# Altium footprint library Pcb44b0x1.PcbLib: 46 footprints (part 1 of 3)
Each footprint in its own frame and in the unit in brackets; x right, y up, seen from the top. Pads: shape width x height; smd on the part's side, far side on the other; paste and mask are expansions set on the pad; w line width, h text height; cw(c..) or ccw(c..) is an arc to the next point about the centre after c.
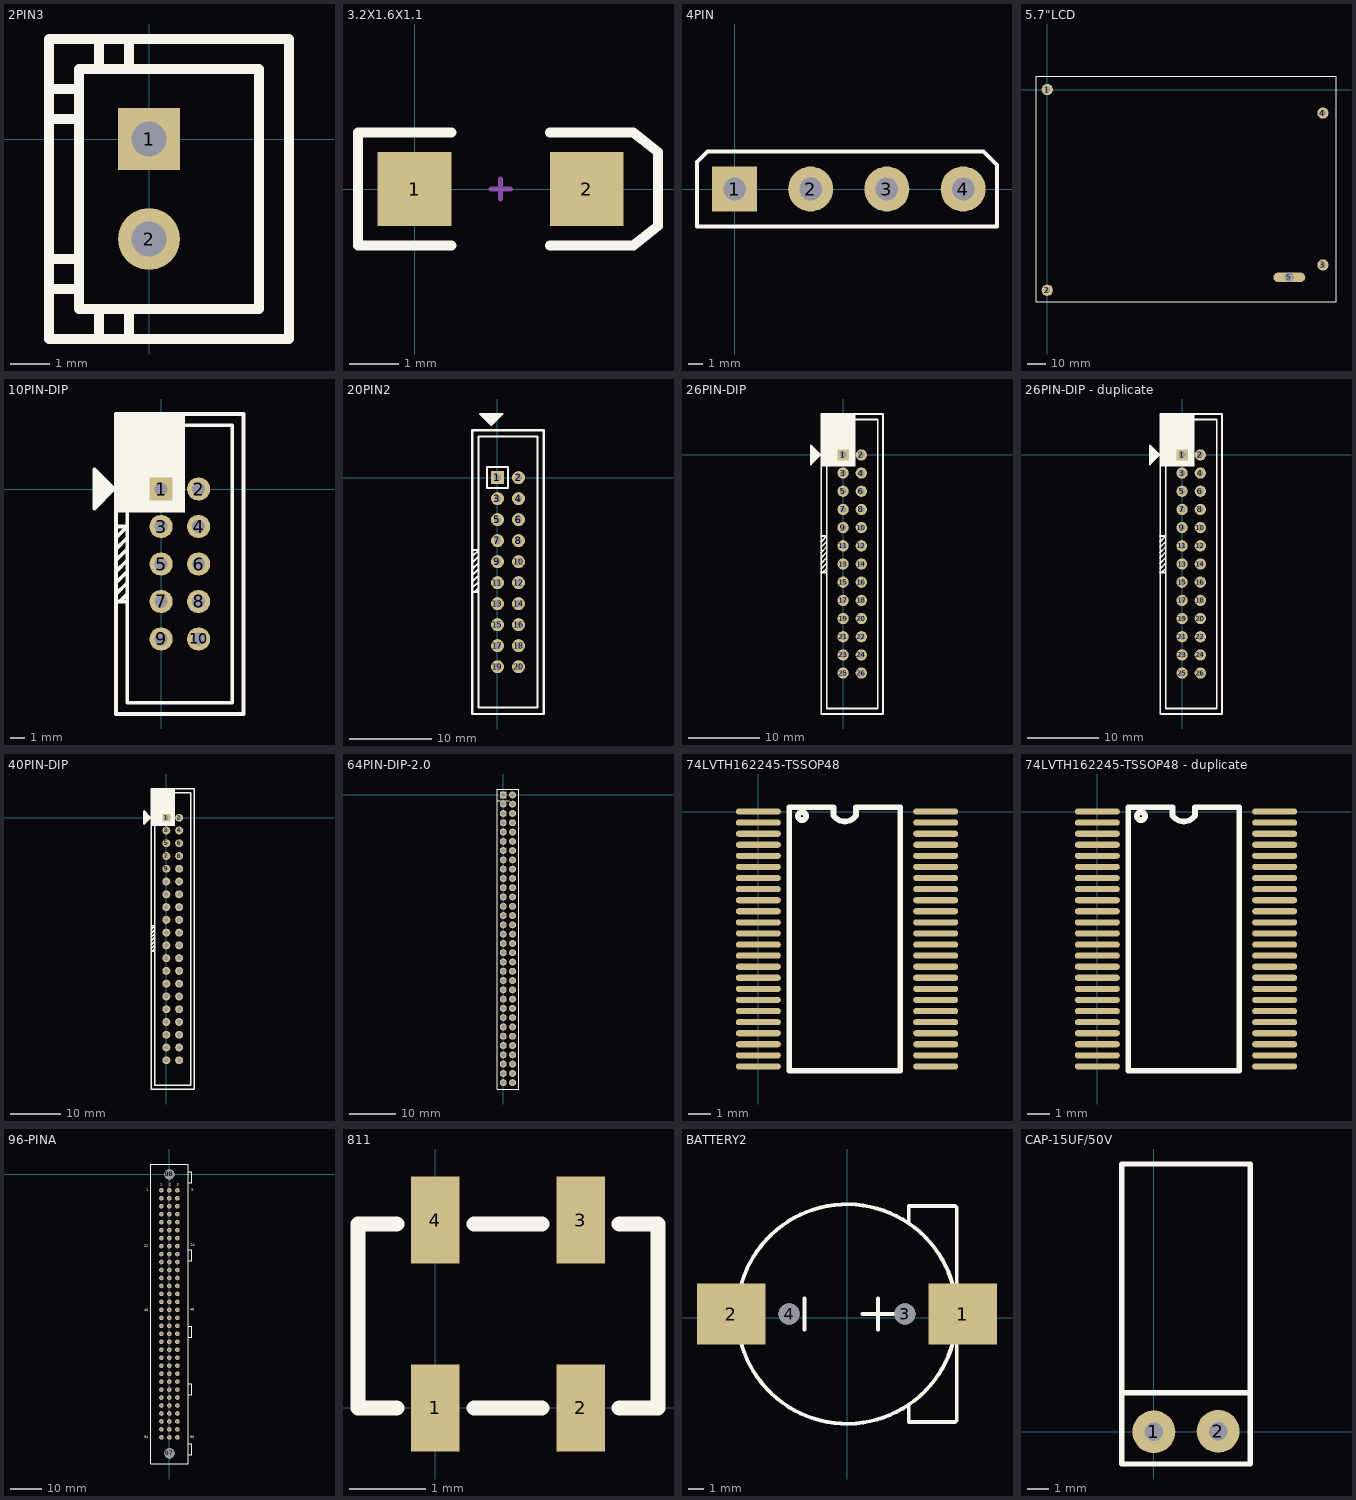
[diagram p0: the footprints below, top view; thin cyan lines are the x and y axes]

## 2PIN3 [mil]
pads (2):
  rect 62x62 hole 35: 1(0,0)
  round 62 hole 35: 2(0,-100)
Top Overlay:
  lines w10: -100,-150 -70,-150 ; -100,-120 -70,-120 ; -100,20 -70,20 ; -100,50 -70,50 ; -50,-200 -50,-170 ; -50,70 -50,100 ; -20,-200 -20,-170 ; -20,70 -20,100 ; -100,-200 -100,100 0,100 140,100 140,-200 -100,-200 ; -70,-170 -70,70 110,70 110,-170 -70,-170
Multi-Layer:
  text "Comment" at -105,113 h25

## 3.2X1.6X1.1 [mm] "SMT LED; 2 Flat Leads"
pads (2):
  rect 1.5x1.5 smd: 1(0,0) 2(3.5,0)
Top Overlay:
  lines w0.2: 0.75,-1.15 -1.15,-1.15 -1.15,1.15 0.75,1.15 ; 2.75,-1.15 4.45,-1.15 4.95,-0.75 4.95,0.75 4.45,1.15 2.75,1.15
Mechanical 1:
  lines w0.1: 1.55,0 1.95,0 ; 1.75,-0.2 1.75,0.2

## 4PIN [mm]
pads (4):
  rect 3x3 hole 1.5: 1(0,0)
  round 3 hole 1.5: 2(5.08,0) 3(10.16,0) 4(15.24,0)
Top Overlay:
  lines w0.254: -2.5,-2.5 -2.5,1.8 -1.8,2.5 16.6,2.5 17.5,1.6 17.5,-2.5 -2.5,-2.5

## 5.7"LCD [mm]
pads (5):
  round 6 hole 3.1: 1(0,0) 2(0,-107) 3(147,-93.5) 4(147,-12.5)
  oval 17x5 hole 5: 5(129.1,-100.1)
Top Overlay:
  lines w0.305: -6,-113 -6,7 154,7 154,-113 -6,-113

## 10PIN-DIP [mil]
pads (10):
  rect 62x62 hole 35: 1(0,0)
  round 62 hole 35: 2(100,0) 3(0,-100) 4(100,-100) 5(0,-200) 6(100,-200) 7(0,-300) 8(100,-300) 9(0,-400) 10(100,-400)
Top Overlay:
  region: -120,-62.2 63.78,-62.2 63.78,200 -120,200
  lines w10: -177.56,-19.68 -177.56,-51.97 -177.17,-52.36 -177.17,-51.97 -124.57,0.63 -124.57,0.79 -124.57,-0.39 -124.57,-0.24 -177.56,52.76 -177.56,-35.04 -170.2,-38.46 -170.2,45.4 ; -161.49,36.68 -161.49,-32.21 -161.42,-32.28 ; -153.15,-24.8 -152.66,-24.31 -152.66,27.86 ; -144.06,-12.17 -144.06,19.26 ; -136.72,-5.23 -136.72,11.92 ; -120,-280 -90,-250 ; -120,-250 -90,-220 ; -120,-220 -90,-190 ; -120,-190 -90,-160 ; -120,-160 -90,-130 ; -120,-130 -90,-100 -120,-100 ; -90,-300 -120,-300 -110,-300 -90,-280 ; -120,-600 -120,-500 -120,200 220,200 220,-500 220,-600 -120,-600 ; -90,-570 -90,170 190,170 190,-570 -90,-570 ; -60,-50 50,-50 50,60 -60,60 -60,-50
Multi-Layer:
  text "Comment" at -185.06,213 h25

## 20PIN2 [mil]
pads (20):
  rect 62x62 hole 35: 1(0,0)
  round 62 hole 35: 2(100,0) 3(0,-100) 4(100,-100) 5(0,-200) 6(100,-200) 7(0,-300) 8(100,-300) 9(0,-400) 10(100,-400) 11(0,-500) 12(100,-500) 13(0,-600) 14(100,-600) 15(0,-700) 16(100,-700) 17(0,-800) 18(100,-800) 19(0,-900) 20(100,-900)
Top Overlay:
  lines w10: -120,-525 -90,-495 ; -120,-495 -90,-465 ; -120,-465 -90,-435 ; -120,-435 -90,-405 ; -120,-405 -90,-375 ; -120,-375 -90,-345 -120,-345 ; -90,-545 -120,-545 -110,-545 -90,-525 ; -62.28,286.42 -62.21,286.49 6.68,286.49 ; -54.8,278.15 -54.31,277.66 -2.14,277.66 ; -49.68,302.56 -81.97,302.56 -82.36,302.17 -81.97,302.17 -29.37,249.57 -29.21,249.57 -30.39,249.57 -30.24,249.57 22.76,302.56 -65.04,302.56 -68.46,295.2 15.4,295.2 ; -42.17,269.06 -10.74,269.06 ; -35.23,261.72 -18.08,261.72 ; -120,-1125 220,-1125 220,225 0,225 -120,225 -120,-1125 ; -90,-1095 190,-1095 190,195 -90,195 -90,-1095 ; -50,-50 -50,50 50,50 50,-50 -50,-50

## 26PIN-DIP [mil]
pads (26):
  rect 62x62 hole 35: 1(0,0)
  round 62 hole 35: 2(100,0) 3(0,-100) 4(100,-100) 5(0,-200) 6(100,-200) 7(0,-300) 8(100,-300) 9(0,-400) 10(100,-400) 11(0,-500) 12(100,-500) 13(0,-600) 14(100,-600) 15(0,-700) 16(100,-700) 17(0,-800) 18(100,-800) 19(0,-900) 20(100,-900) 21(0,-1000) 22(100,-1000) 23(0,-1100) 24(100,-1100) 25(0,-1200) 26(100,-1200)
Top Overlay:
  region: -120,-63.39 66.14,-63.39 66.14,225 -120,225
  lines w10: -177.56,-19.68 -177.56,-51.97 -177.17,-52.36 -177.17,-51.97 -124.57,0.63 -124.57,0.79 -124.57,-0.39 -124.57,-0.24 -177.56,52.76 -177.56,-35.04 -170.2,-38.46 -170.2,45.4 ; -161.49,36.68 -161.49,-32.21 -161.42,-32.28 ; -153.15,-24.8 -152.66,-24.31 -152.66,27.86 ; -144.06,-12.17 -144.06,19.26 ; -136.72,-5.23 -136.72,11.92 ; -121.45,-626.45 -91.45,-596.45 ; -121.45,-596.45 -91.45,-566.45 ; -121.45,-566.45 -91.45,-536.45 ; -121.45,-536.45 -91.45,-506.45 ; -121.45,-506.45 -91.45,-476.45 ; -121.45,-476.45 -91.45,-446.45 -121.45,-446.45 ; -91.45,-646.45 -121.45,-646.45 -111.45,-646.45 -91.45,-626.45 ; -120,-1425 220,-1425 220,-1225 220,-1125 220,225 0,225 -120,225 -120,-1125 -120,-1225 -120,-1425 ; -90,-1395 190,-1395 190,-1195 190,-1095 190,195 -90,195 -90,-1095 -90,-1195 -90,-1395 ; -50,-50 50,-50 50,50 -50,50 -50,-50
Multi-Layer:
  text "Comment" at -185.06,238 h25

## 26PIN-DIP - duplicate [mil]
pads (26):
  rect 62x62 hole 35: 1(0,0)
  round 62 hole 35: 2(100,0) 3(0,-100) 4(100,-100) 5(0,-200) 6(100,-200) 7(0,-300) 8(100,-300) 9(0,-400) 10(100,-400) 11(0,-500) 12(100,-500) 13(0,-600) 14(100,-600) 15(0,-700) 16(100,-700) 17(0,-800) 18(100,-800) 19(0,-900) 20(100,-900) 21(0,-1000) 22(100,-1000) 23(0,-1100) 24(100,-1100) 25(0,-1200) 26(100,-1200)
Top Overlay:
  region: -120,-63.39 66.14,-63.39 66.14,225 -120,225
  lines w10: -177.56,-19.68 -177.56,-51.97 -177.17,-52.36 -177.17,-51.97 -124.57,0.63 -124.57,0.79 -124.57,-0.39 -124.57,-0.24 -177.56,52.76 -177.56,-35.04 -170.2,-38.46 -170.2,45.4 ; -161.49,36.68 -161.49,-32.21 -161.42,-32.28 ; -153.15,-24.8 -152.66,-24.31 -152.66,27.86 ; -144.06,-12.17 -144.06,19.26 ; -136.72,-5.23 -136.72,11.92 ; -121.45,-626.45 -91.45,-596.45 ; -121.45,-596.45 -91.45,-566.45 ; -121.45,-566.45 -91.45,-536.45 ; -121.45,-536.45 -91.45,-506.45 ; -121.45,-506.45 -91.45,-476.45 ; -121.45,-476.45 -91.45,-446.45 -121.45,-446.45 ; -91.45,-646.45 -121.45,-646.45 -111.45,-646.45 -91.45,-626.45 ; -120,-1425 220,-1425 220,-1225 220,-1125 220,225 0,225 -120,225 -120,-1125 -120,-1225 -120,-1425 ; -90,-1395 190,-1395 190,-1195 190,-1095 190,195 -90,195 -90,-1095 -90,-1195 -90,-1395 ; -50,-50 50,-50 50,50 -50,50 -50,-50
Multi-Layer:
  text "Comment" at -185.06,238 h25

## 40PIN-DIP [mil]
pads (40):
  rect 62x62 hole 35: 1(0,0)
  round 62 hole 35: 2(100,0) 3(0,-100) 4(100,-100) 5(0,-200) 6(100,-200) 7(0,-300) 8(100,-300) 9(0,-400) 10(100,-400) 11(0,-500) 12(100,-500) 13(0,-600) 14(100,-600) 15(0,-700) 16(100,-700) 17(0,-800) 18(100,-800) 19(0,-900) 20(100,-900) 21(0,-1000) 22(100,-1000) 23(0,-1100) 24(100,-1100) 25(0,-1200) 26(100,-1200) 27(0,-1300) 28(100,-1300) 29(0,-1400) 30(100,-1400) 31(0,-1500) 32(100,-1500) 33(0,-1600) 34(100,-1600) 35(0,-1700) 36(100,-1700) 37(0,-1800) 38(100,-1800) 39(0,-1900) 40(100,-1900)
Top Overlay:
  region: -120,-63.39 66.14,-63.39 66.14,225 -120,225
  lines w10: -178.35,-19.68 -178.35,-51.97 -177.95,-52.36 -177.95,-51.97 -125.35,0.63 -125.35,0.79 -125.35,-0.39 -125.35,-0.24 -178.35,52.76 -178.35,-35.04 -170.99,-38.46 -170.99,45.4 ; -162.27,36.68 -162.27,-32.21 -162.2,-32.28 ; -153.94,-24.8 -153.45,-24.31 -153.45,27.86 ; -144.85,-12.17 -144.85,19.26 ; -137.51,-5.23 -137.51,11.92 ; -120.33,-1027 -90.33,-997 ; -120.33,-997 -90.33,-967 ; -120.33,-967 -90.33,-937 ; -120.33,-937 -90.33,-907 ; -120.33,-907 -90.33,-877 ; -120.33,-877 -90.33,-847 -120.33,-847 ; -90.33,-1047 -120.33,-1047 -110.33,-1047 -90.33,-1027 ; -120,-2125 220,-2125 220,-1125 220,225 0,225 -120,225 -120,-1125 -120,-2120 -120,-2125 ; -90,-2095 190,-2095 190,-1095 190,195 -90,195 -90,-1095 -90,-2095 ; -50,-50 50,-50 50,50 -50,50 -50,-50
Multi-Layer:
  text "Comment" at -183.35,238 h25

## 64PIN-DIP-2.0 [mm]
pads (64):
  rect 1.5x1.5 hole 0.889: 1(0,0)
  round 1.5 / inner round 1.575 / far side round 1.575 hole 0.889: 2(2,0) 4(2,-2)
  round 1.5 hole 0.889: 3(0,-2) 5(0,-4) 6(2,-4) 7(0,-6) 8(2,-6) 9(0,-8) 10(2,-8) 11(0,-10) 12(2,-10) 13(0,-12) 14(2,-12) 15(0,-14) 16(2,-14) 17(0,-16) 18(2,-16) 19(0,-18) 20(2,-18) 21(0,-20) 22(2,-20) 23(0,-22) 24(2,-22) 25(0,-24) 26(2,-24) 27(0,-26) 28(2,-26) 29(0,-28) 30(2,-28) 31(0,-30) 32(2,-30) 33(0,-32) 34(2,-32) 35(0,-34) 36(2,-34) 37(0,-36) 38(2,-36) 39(0,-38) 40(2,-38) 41(0,-40) 42(2,-40) 43(0,-42) 44(2,-42) 45(0,-44) 46(2,-44) 47(0,-46) 48(2,-46) 49(0,-48) 50(2,-48) 51(0,-50) 52(2,-50) 53(0,-52) 54(2,-52) 55(0,-54) 56(2,-54) 57(0,-56) 58(2,-56) 59(0,-58) 60(2,-58) 61(0,-60) 62(2,-60) 63(0,-62) 64(2,-62)
Top Overlay:
  lines w0.254: -1.27,-1.27 1.27,-1.27 ; -1.27,-63.362 -1.27,1.27 3.319,1.27 3.319,-63.362 -1.27,-63.362
Multi-Layer:
  text "Comment" at -1.397,1.6 h0.64

## 74LVTH162245-TSSOP48 [mil]
pads (48):
  oval 80x11 smd: 1(0,0) 2(0,-19.68) 3(0,-39.37) 4(0,-59.06) 5(0,-78.74) 6(0,-98.43) 7(0,-118.11) 8(0,-137.8) 9(0,-157.48) 10(0,-177.17) 11(0,-196.85) 12(0,-216.54) 13(0,-236.22) 14(0,-255.91) 15(0,-275.59) 16(0,-295.28) 17(0,-314.96) 18(0,-334.65) 19(0,-354.33) 20(0,-374.02) 21(0,-393.7) 22(0,-413.39) 23(0,-433.07) 24(0,-452.76) 25(314.96,-452.76) 26(314.96,-433.07) 27(314.96,-413.39) 28(314.96,-393.7) 29(314.96,-374.02) 30(314.96,-354.33) 31(314.96,-334.65) 32(314.96,-314.96) 33(314.96,-295.28) 34(314.96,-275.59) 35(314.96,-255.91) 36(314.96,-236.22) 37(314.96,-216.54) 38(314.96,-196.85) 39(314.96,-177.17) 40(314.96,-157.48) 41(314.96,-137.8) 42(314.96,-118.11) 43(314.96,-98.43) 44(314.96,-78.74) 45(314.96,-59.06) 46(314.96,-39.37) 47(314.96,-19.68) 48(314.96,0)
Top Overlay:
  circle w10: c77.61,-8.08 r7.18
  lines w10: 55.12,-460.63 251.97,-460.63 251.97,7.91 173.54,7.91 173.54,-7.09 cw(c153.54,6.66) 133.54,-7.09 133.54,7.91 55.12,7.91 55.12,-460.63

## 74LVTH162245-TSSOP48 - duplicate [mil]
pads (48):
  oval 80x11 smd: 1(0,0) 2(0,-19.68) 3(0,-39.37) 4(0,-59.06) 5(0,-78.74) 6(0,-98.43) 7(0,-118.11) 8(0,-137.8) 9(0,-157.48) 10(0,-177.17) 11(0,-196.85) 12(0,-216.54) 13(0,-236.22) 14(0,-255.91) 15(0,-275.59) 16(0,-295.28) 17(0,-314.96) 18(0,-334.65) 19(0,-354.33) 20(0,-374.02) 21(0,-393.7) 22(0,-413.39) 23(0,-433.07) 24(0,-452.76) 25(314.96,-452.76) 26(314.96,-433.07) 27(314.96,-413.39) 28(314.96,-393.7) 29(314.96,-374.02) 30(314.96,-354.33) 31(314.96,-334.65) 32(314.96,-314.96) 33(314.96,-295.28) 34(314.96,-275.59) 35(314.96,-255.91) 36(314.96,-236.22) 37(314.96,-216.54) 38(314.96,-196.85) 39(314.96,-177.17) 40(314.96,-157.48) 41(314.96,-137.8) 42(314.96,-118.11) 43(314.96,-98.43) 44(314.96,-78.74) 45(314.96,-59.06) 46(314.96,-39.37) 47(314.96,-19.68) 48(314.96,0)
Top Overlay:
  circle w10: c77.61,-8.08 r7.18
  lines w10: 55.12,-460.63 55.12,7.91 133.54,7.91 133.54,-7.09 ccw(c153.54,6.66) 173.54,-7.09 173.54,7.91 251.97,7.91 251.97,-460.63 55.12,-460.63

## 96-PINA [mil]
pads (99):
  round 58 hole 33: 1(-100,-200) 2(0,-200) 3(100,-200) 4(-100,-300) 5(0,-300) 6(100,-300) 7(-100,-400) 8(0,-400) 9(100,-400) 10(-100,-500) 11(0,-500) 12(100,-500) 13(-100,-600) 14(0,-600) 15(100,-600) 16(-100,-700) 17(0,-700) 18(100,-700) 19(-100,-800) 20(0,-800) 21(100,-800) 22(-100,-900) 23(0,-900) 24(100,-900) 25(-100,-1000) 26(0,-1000) 27(100,-1000) 28(-100,-1100) 29(0,-1100) 30(100,-1100) 31(-100,-1200) 32(0,-1200) 33(100,-1200) 34(-100,-1300) 35(0,-1300) 36(100,-1300) 37(-100,-1400) 38(0,-1400) 39(100,-1400) 40(-100,-1500) 41(0,-1500) 42(100,-1500) 43(-100,-1600) 44(0,-1600) 45(100,-1600) 46(-100,-1700) 47(0,-1700) 48(100,-1700) 49(-100,-1800) 50(0,-1800) 51(100,-1800) 52(-100,-1900) 53(0,-1900) 54(100,-1900) 55(-100,-2000) 56(0,-2000) 57(100,-2000) 58(-100,-2100) 59(0,-2100) 60(100,-2100) 61(-100,-2200) 62(0,-2200) 63(100,-2200) 64(-100,-2300) 65(0,-2300) 66(100,-2300) 67(-100,-2400) 68(0,-2400) 69(100,-2400) 70(-100,-2500) 71(0,-2500) 72(100,-2500) 73(-100,-2600) 74(0,-2600) 75(100,-2600) 76(-100,-2700) 77(0,-2700) 78(100,-2700) 79(-100,-2800) 80(0,-2800) 81(100,-2800) 82(-100,-2900) 83(0,-2900) 84(100,-2900) 85(-100,-3000) 86(0,-3000) 87(100,-3000) 88(-100,-3100) 89(0,-3100) 90(100,-3100) 91(-100,-3200) 92(0,-3200) 93(100,-3200) 94(-100,-3300) 95(0,-3300) 96(100,-3300)
  round 128 hole 128: 97(0,-3500) 98(0,0) 98(0,0)
Top Overlay:
  lines w12: -236.22,-3633.86 236.22,-3633.86 236.22,129.92 -236.22,129.92 -236.22,-3633.86 ; 235,-3520 280,-3520 280,-3380 235,-3380 235,-3520 ; 235,-2765 280,-2765 280,-2625 235,-2625 235,-2765 ; 235,-2045 280,-2045 280,-1905 235,-1905 235,-2045 ; 235,-1085 280,-1085 280,-945 235,-945 235,-1085 ; 235,-105 280,-105 280,35 235,35 235,-105
  text "1" at -115,-145 h30
  text "46" at -315,-1715 h30
  text "48" at 260,-1710 h30
  text "24" at 265,-905 h30
  text "22" at -315,-915 h30
  text "96" at 260,-3310 h30
  text "94" at -315,-3310 h30
  text "3" at 275,-215 h30
  text "1" at -290,-215 h30
  text "3" at 95,-145 h30
  text "2" at -5,-145 h30

## 811 [mil]
pads (4):
  rect 25x45 smd: 1(0,0) 2(75,0) 3(75,97) 4(0,97)
Top Overlay:
  lines w7.87: -20,0 -40,0 -40,90 -40,95 -35,95 -20,95 ; 20,0 55,0 ; 20,95 55,95 ; 95,0 115,0 115,95 95,95

## BATTERY2 [mil]
pads (4):
  rect 177.16x157.48 smd: 1(300,10) 2(-300,10)
  round 55.12 hole 55.12 unplated: 3(150,10) 4(-150,10)
Top Overlay:
  circle w10: c0,10 r284.25
  lines w10: -110,-30 -110,50 ; 40,10 120,10 ; 80,-30 80,50 ; 160,-230 160,-270 280,-270 284.25,-265.75 284.25,10 284.25,285.75 280,290 160,290 160,250

## CAP-15UF/50V [mil]
pads (2):
  round 80 hole 35: 1(0,0) 2(120,1)
Top Overlay:
  lines w10: -58,73 178,73 ; -60,-60 180,-60 180,500 -60,500 -60,-60
Multi-Layer:
  text "+" at -111,-21 h40